# Altium schematic symbol library 晶振.SchLib: 5 symbols
Pins are listed as number, name and electrical type; pins without a type are passive.

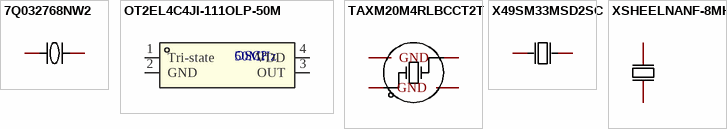
[diagram p0: symbols 7Q032768NW2 to XSHEELNANF-8MHZ]

## 7Q032768NW2
designator X??  (value not drawn)
Manufacturer: HD(浩都频率); Name: 32.768kHz; Add into BOM: yes; Crystal Type: 圆柱体晶振; Value: 32.768kHz; Frequency Tolerance: ±20ppm; Load Capacitance: 12.5pF; Symbol: 7Q032768NW2; Device: 7Q032768NW2; LCSC Part Name: 32.768kHz ±20ppm 12.5pF; Supplier Part: C655213; Manufacturer Part: 7Q032768NW2; Supplier Footprint: DT-38; JLCPCB Part Class: Extended Part; Datasheet: https://atta.szlcsc.com/upload/public/pdf/source/20220223/B76C1D523ECD7D394DEF5362806F9B06.pdf; Supplier: LCSC; Convert to PCB: yes; Frequency Stability: ±20ppm; Operating Temperature: -
footprint CRYSTAL-TH_BD3.1-L8.0-P2.00-1
3D model CRYSTAL-TH_BD3.1-L8.0-P2.00-1
pins: 1 OSC1, 2 OSC2

## OT2EL4C4JI-111OLP-50M
designator OSC?, comment 50MHz
频率:50MHz;常温频差:±10ppm;输出模式:CMOS;工作电压:1.8V~3.3V;频率稳定度:±20ppm;; Manufacturer: YXC(扬兴晶振); Manufacturer Part: OT2EL4C4JI-111OLP-50M; SEEX_AUTHOR: ref42; SEEX_COMPONENT_ID: C5203552; Frequency Stability: ?0ppm; Output Type: CMOS; SEEX_PROJECT_URL: https://github.com/ref42/seex; Footprint: OSC-SMD_4P-L3.2-W2.5-BL; Datasheet: https://item.szlcsc.com/datasheet/OT2EL4C4JI-111OLP-50M/5892914.html; JLCPCB Part Class: Extended Part; LCSC Part Name: YSO110TR 50MHZ 1.8V-3.3V ±10PPM -40~85℃ (±20PPM) CMOS; Normal temperature Frequency Tolerance: ?0ppm; Operating Temperature: -40℃~+85℃; Supplier: LCSC; Supplier Footprint: SMD3225-4P; Supplier Part: C5203552; Value: 50MHz; Voltage - Supply: 1.8V~3.3V
footprint OSC-SMD_4P-L3.2-W2.5-BL (SMD; 3.2mmx2.5mm; -; CDFN-4; DFN-4; SMD3225-4P; SMD-4P; SMD-4; SMD2016-4P; VDFN-4; SMD5032-4P; SMD7050-4P; SMD3225-6P; 3.2x2.5mm; SMD-3225; SMD2520-4P; SMD3225; SMD 3.2x2.5; SMD-3225_4P; SMD_3225; 3225; SMD-3225-4P; OSC-SMD_4P-L3.2-W2.5-BL; SMD-4_3225; OSC3225; CRYSTAL_3225M; OSC3225-4P; 37.125MHz; X_SMD3225; XTAL4-3.2X2.5; OSC-SMD; OSC-4P; OSC-4; XTAL_4PIN; OSC-SMD-4P; OSC-D3225; SMD_ 3225; SMD-4-3225; LC-SMD-3225_4P; &#26230;&#25391;3225; OSC-SMD_4P-L3.2-W2.5; 3225-4P; XTAL_3225; CRYSTAL-SMD_4P-L3.2-W2.5; SMD_3225-4P; XTL-3225_4P; TSX-3225-4; 3225-4; SMD-4P_L3.2-W2.5; XTAL_SMD_4P; SMD-4P,2.5x3.2x1.60P)
pins: 1 Tri-state, 2 GND, 3 OUT, 4 VDD

## TAXM20M4RLBCCT2T
designator X??  (value not drawn)
Manufacturer: YJX(雅晶鑫); Name: 20MHz; Symbol: SMD-3225_4P20MHZ20PF10PPM; Add into BOM: yes; Crystal Type: 贴片无源晶振; Value: 20MHz; Load Capacitance: 20pF; Equivalent Series Resistance (ESR): 80Ω; Frequency Tolerance: ±10ppm; Frequency Stability: ±50ppm; Device: TAXM20M4RLBCCT2T; LCSC Part Name: 20MHz ±10ppm 20pF; Supplier Part: C172730; Manufacturer Part: TAXM20M4RLBCCT2T; Supplier Footprint: SMD3225-4P; JLCPCB Part Class: Extended Part; Datasheet: https://atta.szlcsc.com/upload/public/pdf/source/20180118/C172730_15162577115511279714.pdf; Supplier: LCSC; Convert to PCB: yes; Operating Temperature: -40℃~+85℃
footprint CRYSTAL-SMD_4P-L3.2-W2.5-BL
3D model OSC-SMD_4P-L3.2-W2.5-H1.0
pins: 1 OE#, 2 GND, 3 OUT, 4 GND

## X49SM33MSD2SC
designator X??  (value not drawn)
Manufacturer: YXC(扬兴晶振); Name: 33MHz; Add into BOM: yes; Crystal Type: 49SMD; Value: 33MHz; Load Capacitance: 20pF; Frequency Tolerance: ±20ppm; Frequency Stability: ±30ppm; Symbol: X49SM33MSD2SC; Device: X49SM33MSD2SC; LCSC Part Name: 33MHz ±20ppm 20pF HC-49SMD; Supplier Part: C52080; Manufacturer Part: X49SM33MSD2SC; Supplier Footprint: HC-49S-SMD; JLCPCB Part Class: Extended Part; Datasheet: https://atta.szlcsc.com/upload/public/pdf/source/20210329/C106809_0E91E60850A780B284B63D653DC40EA4.pdf; Supplier: LCSC; Convert to PCB: yes; Operating Temperature: -20℃~+70℃
footprint HC-49S_L11.4-W4.8
3D model HC-49S_L11.4-W1.8-H3.0-LS12.7
pins: 1 OSC1, 2 OSC2

## XSHEELNANF-8MHZ
designator 2  (value not drawn)
Designer: U?; Symbol: XSHEELNANF-8MHZ; Device: XSHEELNANF-8MHZ
footprint OSC-SMD_2P-L5.0-W3.2
pins: 1 OSC1, 2 OSC2